# EAGLE library part ST-4 (library guider-shield)
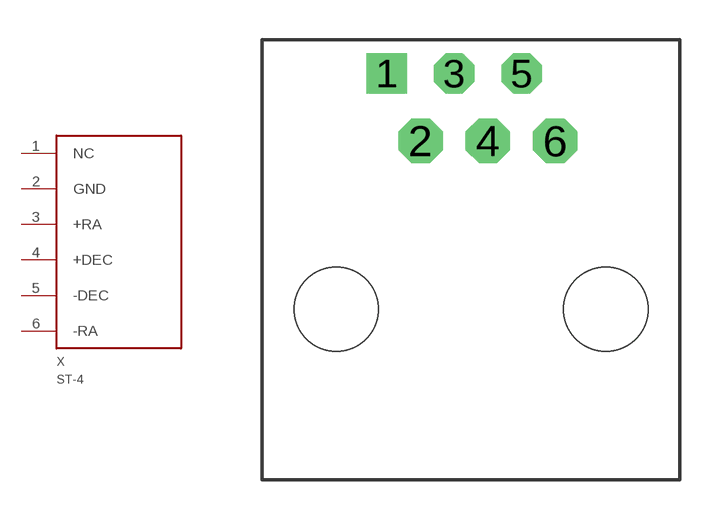
[diagram p4: symbol with the pads of MTJ-663X1; footprint MTJ-663X1]

Designator prefix X

## ST-4-MTJ-663X1  [MTJ-663X1]
1  NC  nc
2  GND  in
3  +RA  in
4  +DEC  in
5  -DEC  in
6  -RA  in

## Footprint MTJ-663X1 (pad centres in mm)
drill 0.889 pad 1.524 square: 1 -3.175,8.89
drill 0.889 pad 1.676 octagon: 2 -1.905,6.35; 4 0.635,6.35; 6 3.175,6.35
drill 0.889 pad 1.524 octagon: 3 -0.635,8.89; 5 1.905,8.89
hole 3.175 at -5.08,0
hole 3.175 at 5.08,0